# Altium schematic symbol library RS232-MITM.SchLib: 1 symbol
Pins are listed as number, name and electrical type; pins without a type are passive.

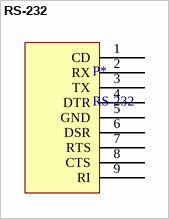
[diagram p0: symbol RS-232]

## RS-232
designator P*
pins: 1 CD, 2 RX, 3 TX, 4 DTR, 5 GND, 6 DSR, 7 RTS, 8 CTS, 9 RI